# Altium footprint library TRACOPOWER_TEA 1.PcbLib: 1 footprints
Each footprint in its own frame and in the unit in brackets; x right, y up, seen from the top. Pads: shape width x height; smd on the part's side, far side on the other; paste and mask are expansions set on the pad; w line width, h text height; cw(c..) or ccw(c..) is an arc to the next point about the centre after c.
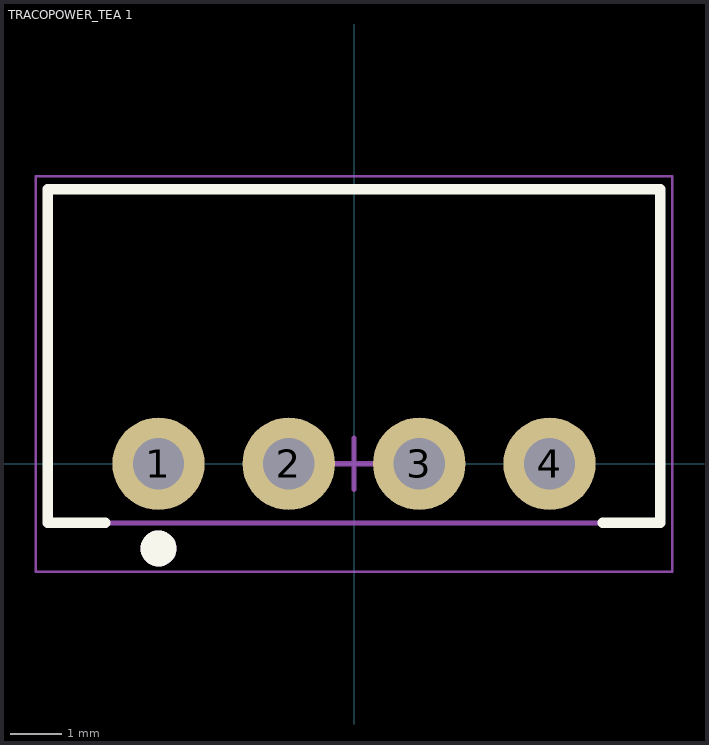
[diagram p0: the footprint, top view; thin cyan lines are the x and y axes]

## TRACOPOWER_TEA 1 [mm]
height 10.65
pads (4):
  round 1.8 hole 1 mask+0.05: 1(-3.81,0) 2(-1.27,0) 3(1.27,0) 4(3.81,0)
Top Overlay:
  circle w0.5: c-3.81,-1.65 r0.1
  lines w0.2: -4.84,-1.15 -5.965,-1.15 -5.965,5.35 5.965,5.35 5.965,-1.15 4.84,-1.15
Mechanical 13:
  circle w0.5: c-3.81,-1.65 r0.1
  lines w0.1: -5.965,-1.15 -5.965,5.35 5.965,5.35 5.965,-1.15 -5.965,-1.15
Mechanical 15:
  lines w0.05: -6.2,-2.1 6.2,-2.1 6.2,5.6 -6.2,5.6 -6.2,-2.1
  lines w0.1: -0.5,0 0.5,0 ; 0,-0.5 0,0.5
3D body "CUI_PDSE1-S.step": height 10.17, standoff -4.09, extent -5.8,-0.875 5.8,5.125